# Altium schematic symbol library Symbols.SchLib: 50 symbols
Pins are listed as number, name and electrical type; pins without a type are passive.

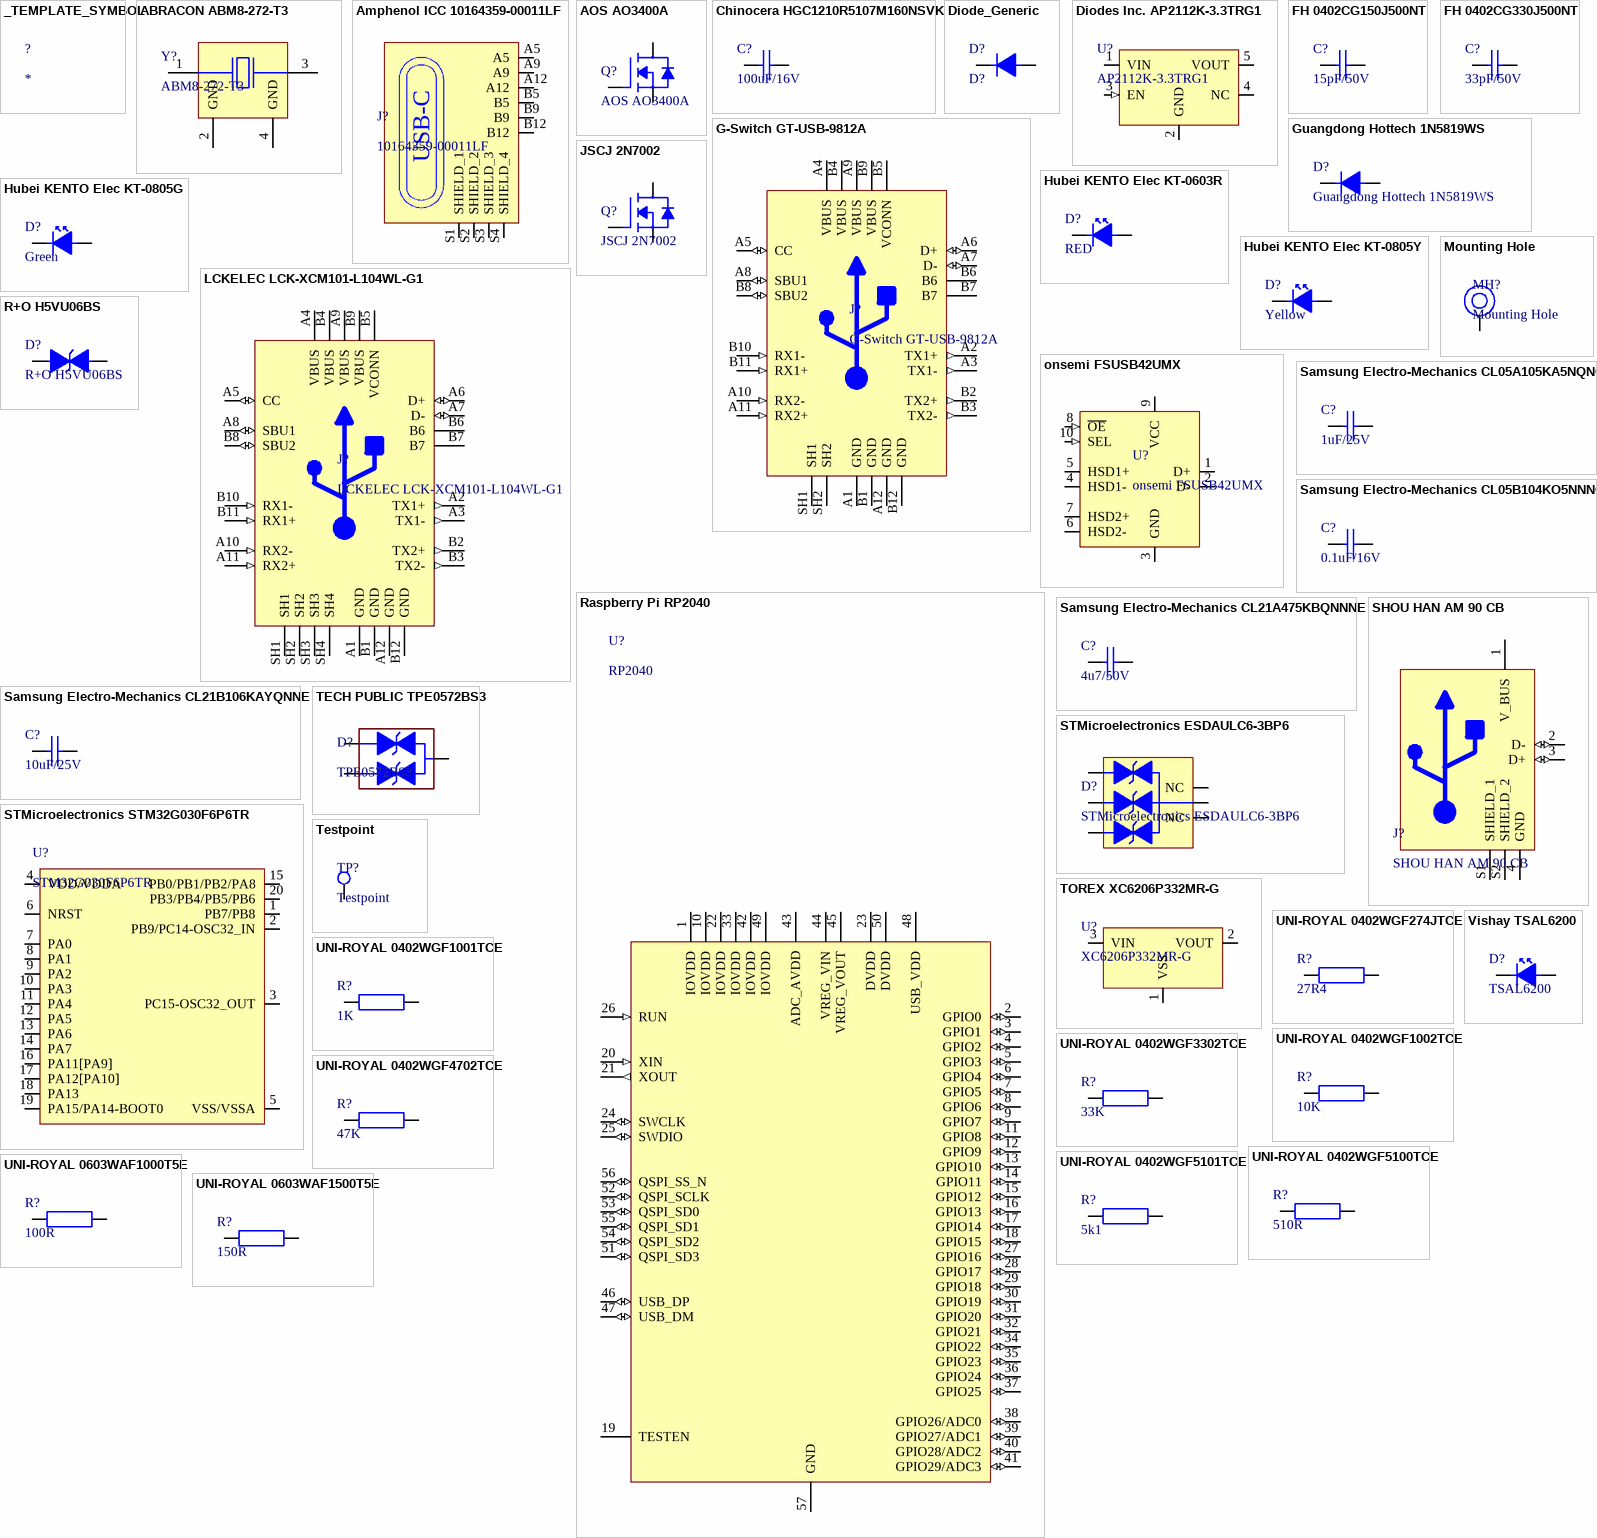
[diagram p0: symbols _TEMPLATE_SYMBOL to Vishay TSAL6200]

## _TEMPLATE_SYMBOL
designator ?
Manufacturer Part Number: *; ComponentLink1Description: Datasheet; ComponentLink1URL: *; Manufacturer: *; LCSC Part Number: *; ComponentLink2Description: 3D Model Source; ComponentLink2URL: *; JLCPCB Parts Type: *; JLCPCB PCBA Type: *
footprint _TEMPLATE_FOOTPRINT

## ABRACON ABM8-272-T3
designator Y?, comment ABM8-272-T3
12 MHz ±30ppm Crystal 10pF 50 Ohms 4-SMD, No Lead; Manufacturer: ABRACON; Manufacturer Part Number: ABM8-272-T3; ComponentLink1Description: Datasheet; ComponentLink1URL: https://abracon.com/datasheets/ABM8-272-T3.pdf; LCSC Part Number: C20625731; ComponentLink2Description: 3D Model Source; ComponentLink2URL: *; JLCPCB Parts Type: Extended; JLCPCB PCBA Type: Economic and Standard; Supplier 1: LCSC; Supplier Part Number 1: C20625731
footprint ABRACON ABM8-272-T3
pins: 1, 2 GND, 3, 4 GND

## Amphenol ICC 10164359-00011LF
designator J?, comment 10164359-00011LF
USB-C Receptacle Connector 24 (6+18 Dummy) - Power Only 6 Pin Position Surface Mount, Right Angle; Through Hole; Manufacturer: Amphenol ICC (FCI); Manufacturer Part Number: 10164359-00011LF; ComponentLink1Description: Datasheet; ComponentLink1URL: https://cdn.amphenol-cs.com/media/wysiwyg/files/drawing/10164359.pdf; ComponentLink2Description: 3D Model Source; ComponentLink2URL: https://www.snapeda.com/parts/10164359-00011LF/Amphenol/view-part/; LCSC Part #: C5407555; Supplier 1: LCSC; Supplier Part Number 1: C5407555; JLCPCB Parts Type: Extended; JLCPCB PCBA Type: Economic and Standard
footprint 10164359-00011LF
pins: A5, A9, A12, B5, B9, B12, S1 SHIELD_1, S2 SHIELD_2, S3 SHIELD_3, S4 SHIELD_4
text: USB-C

## AOS AO3400A
designator Q?
MOSFET N-CH 30V 5.7A SOT23-3L; Manufacturer: Alpha & Omega Semiconductor Inc.; Manufacturer Part Number: AO3400A; ComponentLink1Description: Datasheet; ComponentLink1URL: https://www.aosmd.com/res/datasheets/AO3400A.pdf; LCSC Part Number: C20917; ComponentLink2Description: Datasheet 2; ComponentLink2URL: https://www.aosmd.com/sites/default/files/res/package/SOT23.pdf; Supplier 1: LCSC; Supplier Part Number 1: C20917; JLCPCB Parts Type: Basic; JLCPCB PCBA Type: Economic and Standard; ComponentLink3Description: 3D Model Source; ComponentLink3URL: *
footprint SOT95P280X125-3N (SOT23, 3-Leads, Body 2.95x2.80mm, Pitch 0.95mm, IPC Medium Density)
pins: 1, 2, 3

## Chinocera HGC1210R5107M160NSVK
designator C?, comment 100uF/16V
CAP CER 100uF 16V X5R 1210; Manufacturer Part Number: HGC1210R5107M160NSVK; Manufacturer: Chinocera; ComponentLink1Description: Datasheet; ComponentLink1URL: https://www.lcsc.com/datasheet/C7432790.pdf?spm=wm.sxq.inf.ggs___wm.fly.bg.1.xh&lcsc_vid=EVNaBFcCQFIPBQJRTgMIVQJUEVRaU1dXRlhdBFwFRFIxVlNeRlNYVF1QR1VfUDtW; LCSC Part #: C7432790; JLCPCB Parts Type: Extended; JLCPCB PCBA Type: Economic and Extended
footprint CAPC3225X280N (Chip Capacitor, 2-Leads, Body 3.20x2.50mm, IPC Medium Density)
pins: 1, 2

## Diode_Generic
designator D?, comment D?
Generic Diode
pins: 1, 2

## Diodes Inc. AP2112K-3.3TRG1
designator U?, comment AP2112K-3.3TRG1
IC REG LINEAR 3.3V 600MA SOT-25; Manufacturer: Diodes Incorporated; Manufacturer Part Number: AP2112K-3.3TRG1; ComponentLink1Description: Datasheet; ComponentLink1URL: https://www.diodes.com/assets/Datasheets/AP2112.pdf; LCSC Part #: C51118; Supplier 1: LCSC; Supplier Part Number 1: C51118; JLCPCB Parts Type: Extended; JLCPCB PCBA Type: Economic and Standard
footprint SOT95P285X140-5N (SOT23, 5-Leads, Body 3.00x2.85mm, Pitch 0.95mm, IPC Medium Density)
pins: 1 VIN (power), 2 GND (power), 3 EN (in), 4 NC, 5 VOUT (power)

## FH 0402CG150J500NT
designator C?, comment 15pF/50V
CAP CER 15pF 50V C0G 0402; Manufacturer Part Number: 0402CG150J500NT; Manufacturer: FH; ComponentLink1Description: Datasheet; ComponentLink1URL: https://www.lcsc.com/datasheet/C1548.pdf?spm=wm.sxq.inf.ggs&lcsc_vid=FlIPVFxSEVAMBl1QQ1JdVl0EQlZYVFFSQVZZUFJeRVcxVlNeQ1ZcX1ZUQlReXjsOAxUeFF5JWBYZEEoKFBINSQcJGk4%3D; LCSC Part #: C1548; JLCPCB Parts Type: Basic; JLCPCB PCBA Type: Economic and Standard
footprint CAPC1005X55N (Chip Capacitor, 2-Leads, Body 1.00x0.50mm, IPC Medium Density)
pins: 1, 2

## FH 0402CG330J500NT
designator C?, comment 33pF/50V
CAP CER 33pF 50V C0G 0402; Manufacturer Part Number: 0402CG330J500NT; Manufacturer: FH; ComponentLink1Description: Datasheet; ComponentLink1URL: https://www.lcsc.com/datasheet/C1562.pdf?spm=wm.sxq.inf.ggs&lcsc_vid=Q1MLBFxfQgdYU1dfRFAKBgJUFgQPVwZeRVRdVFMEFlQxVlNeRVdbXlFWR1NfVzsOAxUeFF5JWBYZEEoKFBINSQcJGk4%3D; LCSC Part #: C1562; JLCPCB Parts Type: Basic; JLCPCB PCBA Type: Economic and Standard
footprint CAPC1005X55N (Chip Capacitor, 2-Leads, Body 1.00x0.50mm, IPC Medium Density)
pins: 1, 2

## G-Switch GT-USB-9812A
designator J?
USB 3.1 SMD USB, DVI, HDMI Connector Adapters RoHS; Manufacturer Part Number: GT-USB-9812A; ComponentLink1Description: Datasheet; ComponentLink1URL: https://www.lcsc.com/datasheet/C53055684.pdf?spm=wm.sxq.inf.ggs&lcsc_vid=QFhdBFUAE1JXUFRfFQQLUV0CQlRcUV0CRAJZXwEFRlYxVlNeQ1leUVJRT1lcVTsOAxUeFF5JWBYZEEoKFBINSQcJGk4%3D; Manufacturer: G-Switch; LCSC Part Number: C53055684; ComponentLink2Description: 3D Model Source; ComponentLink2URL: *; JLCPCB Parts Type: Extended; JLCPCB PCBA Type: Economic and Standard
footprint G-Switch GT-USB-9812A
pins: A1 GND (power), A2 TX1+ (out), A3 TX1- (out), A4 VBUS (power), A5 CC (io), A6 D+ (io), A7 D- (io), A8 SBU1 (io), A9 VBUS (power), A10 RX2- (in), A11 RX2+ (in), A12 GND (power), B1 GND (power), B2 TX2+ (out), B3 TX2- (out), B4 VBUS (power), B5 VCONN (power), B6, B7, B8 SBU2 (io), B9 VBUS (power), B10 RX1- (in), B11 RX1+ (in), B12 GND (power), SH1, SH2

## Guangdong Hottech 1N5819WS
designator D?
DIODE SCHOTTKY 40V SOD-323; Manufacturer Part Number: 1N5819WS; ComponentLink1Description: Datasheet; ComponentLink1URL: https://www.lcsc.com/datasheet/C191023.pdf?spm=wm.sxq.inf.ggs&lcsc_vid=FgUKAwAHT1hdAgBSEQJZUFZfRwdWX1BXQgcMVwVSEgcxVlNeQ1dbV11VRlhXXzsOAxUeFF5JWBYZEEoKFBINSQcJGk4%3D; Manufacturer: Guangdong Hottech; LCSC Part Number: C191023; ComponentLink2Description: 3D Model Source; ComponentLink2URL: *; JLCPCB Parts Type: Basic; JLCPCB PCBA Type: Economic and Standard; Supplier 1: LCSC; Supplier Part Number 1: C191023
footprint SODFL250130X100N (SODFL, 2-Leads, Body 1.70x1.30mm, IPC Medium Density)
pins: 1, 2

## Hubei KENTO Elec KT-0603R
designator D?, comment RED
LED RED WATER CLEAR 0603 SMD; Manufacturer Part Number: KT-0603R; Manufacturer: Hubei KENTO Elec; ComponentLink1Description: Datasheet; ComponentLink1URL: https://www.lcsc.com/datasheet/C2286.pdf?spm=wm.sxq.inf.ggs&lcsc_vid=EgULX1wEEgNWVVAHFFheXgEEQVBbUFYFRwIPBF1XRgMxVlNeQ1RbXlJRQFJaUzsOAxUeFF5JWBYZEEoKFBINSQcJGk4%3D; LCSC Part Number: C2286; ComponentLink2Description: 3D Model Source; ComponentLink2URL: *; JLCPCB Parts Type: Basic; JLCPCB PCBA Type: Economic and Standard
footprint DIOC1608X70N (Chip Diode, 2-Leads, Body 1.60x0.80mm, IPC Medium Density)
pins: 1, 2

## Hubei KENTO Elec KT-0805G
designator D?, comment Green
LED EMERALD GREEN 0805 SMD; Manufacturer Part Number: KT-0805Y; Manufacturer: Hubei KENTO Elec; ComponentLink1Description: Datasheet; ComponentLink1URL: https://www.lcsc.com/datasheet/C2297.pdf?spm=wm.sxq.inf.ggs&lcsc_vid=EgULX1wEEgNWVVAHFFheXgEEQVBbUFYFRwIPBF1XRgMxVlNeQ1RYVlRQT1VeUDsOAxUeFF5JWBYZEEoKFBINSQcJGk4%3D; LCSC Part Number: C2297; ComponentLink2Description: 3D Model Source; ComponentLink2URL: *; JLCPCB Parts Type: Basic; JLCPCB PCBA Type: Economic and Standard
footprint DIOC2012X95N (Chip Diode, 2-Leads, Body 2.00x1.25mm, IPC Medium Density)
pins: 1, 2

## Hubei KENTO Elec KT-0805Y
designator D?, comment Yellow
LED YELLOW WATER CLEAR 0805 SMD; Manufacturer Part Number: KT-0805Y; Manufacturer: Hubei KENTO Elec; ComponentLink1Description: Datasheet; ComponentLink1URL: https://www.lcsc.com/datasheet/C2296.pdf?spm=wm.sxq.inf.ggs&lcsc_vid=EgULX1wEEgNWVVAHFFheXgEEQVBbUFYFRwIPBF1XRgMxVlNeQ1RYV1FTR1heVTsOAxUeFF5JWBYZEEoKFBINSQcJGk4eFQsCAgIaSgADAwAHC0slRVNWUUoOAwwC; LCSC Part Number: C2296; ComponentLink2Description: 3D Model Source; ComponentLink2URL: *; JLCPCB Parts Type: Basic; JLCPCB PCBA Type: Economic and Standard
footprint DIOC2012X95N (Chip Diode, 2-Leads, Body 2.00x1.25mm, IPC Medium Density)
pins: 1, 2

## JSCJ 2N7002
designator Q?
MOSFET N-CH 60V 115mA SOT-23; Manufacturer Part Number: 2N7002; ComponentLink1Description: Datasheet; ComponentLink1URL: https://www.lcsc.com/datasheet/C8545.pdf?spm=wm.sxq.inf.ggs&lcsc_vid=EgULX1wEEgNWVVAHFFheXgEEQVBbUFYFRwIPBF1XRgMxVlNeQ1RYUlNfQFBWVTsOAxUeFF5JWBYZEEoKFBINSQcJGk4%3D; Manufacturer: JSCJ; LCSC Part Number: C8545; JLCPCB Parts Type: Basic; JLCPCB PCBA Type: Economic and Standard; ComponentLink3Description: 3D Model Source; ComponentLink3URL: *
footprint SOT95P240X115-3N (SOT23, 3-Leads, Body 2.90x2.40mm, Pitch 0.95mm, IPC Medium Density)
pins: 1, 2, 3

## LCKELEC LCK-XCM101-L104WL-G1
designator J?
SMD USB, DVI, HDMI Connector Adapters RoHS; Manufacturer Part Number: LCK-XCM101-L104WL-G1; ComponentLink1Description: Datasheet; ComponentLink1URL: https://www.lcsc.com/datasheet/C50380726.pdf?spm=wm.sxq.inf.ggs&lcsc_vid=EQdfU1AERAQMUVAEEwNZBAJUFVhYVwEHRVMIUlwFFFIxVlNeRVFYVVxVTlRdVTsOAxUeFF5JWBYZEEoKFBINSQcJGk4%3D; Manufacturer: LCKELEC; LCSC Part Number: C50380726; ComponentLink2Description: 3D Model Source; ComponentLink2URL: *; JLCPCB Parts Type: Extended; JLCPCB PCBA Type: Economic and Standard
footprint LCKELEC LCK-XCM101-L104WL-G1
pins: A1 GND (power), A2 TX1+ (out), A3 TX1- (out), A4 VBUS (power), A5 CC (io), A6 D+ (io), A7 D- (io), A8 SBU1 (io), A9 VBUS (power), A10 RX2- (in), A11 RX2+ (in), A12 GND (power), B1 GND (power), B2 TX2+ (out), B3 TX2- (out), B4 VBUS (power), B5 VCONN (power), B6, B7, B8 SBU2 (io), B9 VBUS (power), B10 RX1- (in), B11 RX1+ (in), B12 GND (power), SH1, SH2, SH3, SH4

## Mounting Hole
designator MH?
pins: 1

## onsemi FSUSB42UMX
designator U?
IC USB SWITCH DPDT 10UMLP; Manufacturer Part Number: FSUSB42UMX; ComponentLink1Description: Datasheet; ComponentLink1URL: https://www.onsemi.com/pdf/datasheet/fsusb42-d.pdf; Manufacturer: onsemi; LCSC Part Number: C11145; ComponentLink2Description: 3D Model Source; ComponentLink2URL: *; JLCPCB Parts Type: Extended; JLCPCB PCBA Type: Economic and Standard; Supplier 1: LCSC; Supplier Part Number 1: C11145
footprint QFN40P140X180X55-10N (QFN, 10-Leads, Body 1.40x1.80mm, Pitch 0.40mm, IPC Medium Density)
pins: 1 D+ (io), 2 D- (io), 3 GND (power), 4 HSD1- (io), 5 HSD1+ (io), 6 HSD2- (io), 7 HSD2+ (io), 8 ~{OE} (in), 9 VCC (power), 10 SEL (in)

## R+O H5VU06BS
designator D?
6V 10A@8/20us 60W@8/20us 10V Bidirectional 5V DFN0603-2L TVS Diodes RoHS; Manufacturer Part Number: H5VU06BS; ComponentLink1Description: Datasheet; ComponentLink1URL: https://www.lcsc.com/datasheet/C52204691.pdf?spm=wm.sxq.inf.ggs&lcsc_vid=EgULX1wEEgNWVVAHFFheXgEEQVBbUFYFRwIPBF1XRgMxVlNeQ1RZVVRTRlBaVTsOAxUeFF5JWBYZEEoKFBINSQcJGk4%3D; Manufacturer: R+O; LCSC Part Number: C52204691; ComponentLink2Description: 3D Model Source; ComponentLink2URL: *; JLCPCB Parts Type: Extended; JLCPCB PCBA Type: Economic and Standard
footprint DFN60X30X34-2N (DFN, 2-Leads, Body 0.60x0.30mm, Pitch 0.40mm, IPC Medium Density)
pins: 1, 2

## Raspberry Pi RP2040
designator U?, comment RP2040
ARM® Cortex®-M0+ - Microcontroller IC 32-Bit Dual-Core 133MHz External Program Memory 56-QFN (7x7); Manufacturer Part Number: SC0914(13); Manufacturer: Raspberry Pi; ComponentLink1Description: Datasheet; ComponentLink1URL: https://pip-assets.raspberrypi.com/categories/814-rp2040/documents/RP-008371-DS-1-rp2040-datasheet.pdf; LCSC Part Number: C2040; ComponentLink2Description: 3D Model Source; ComponentLink2URL: *; Supplier 1: LCSC; Supplier Part Number 1: C2040; JLCPCB Parts Type: Extended; JLCPCB PCBA Type: Economic and Standard
footprint QFN40P700X700X90-57N (QFN, 56-Leads, Body 7.00x7.00mm, Pitch 0.40mm, Thermal Pad 3.10x3.10mm, IPC Medium Density)
pins: 1 IOVDD (power), 2 GPIO0 (io), 3 GPIO1 (io), 4 GPIO2 (io), 5 GPIO3 (io), 6 GPIO4 (io), 7 GPIO5 (io), 8 GPIO6 (io), 9 GPIO7 (io), 10 IOVDD (power), 11 GPIO8 (io), 12 GPIO9 (io), 13 GPIO10 (io), 14 GPIO11 (io), 15 GPIO12 (io), 16 GPIO13 (io), 17 GPIO14 (io), 18 GPIO15 (io), 19 TESTEN, 20 XIN (in), 21 XOUT (out), 22 IOVDD (power), 23 DVDD (power), 24 SWCLK (io), 25 SWDIO (io), 26 RUN (in), 27 GPIO16 (io), 28 GPIO17 (io), 29 GPIO18 (io), 30 GPIO19 (io), 31 GPIO20 (io), 32 GPIO21 (io), 33 IOVDD (power), 34 GPIO22 (io), 35 GPIO23 (io), 36 GPIO24 (io), 37 GPIO25 (io), 38 GPIO26/ADC0 (io), 39 GPIO27/ADC1 (io), 40 GPIO28/ADC2 (io), 41 GPIO29/ADC3 (io), 42 IOVDD (power), 43 ADC_AVDD (power), 44 VREG_VIN (power), 45 VREG_VOUT (power), 46 USB_DP (io), 47 USB_DM (io), 48 USB_VDD (power), 49 IOVDD (power), 50 DVDD (power), 51 QSPI_SD3 (io), 52 QSPI_SCLK (io), 53 QSPI_SD0 (io), 54 QSPI_SD2 (io), 55 QSPI_SD1 (io), 56 QSPI_SS_N (io), 57 GND (power)

## Samsung Electro-Mechanics CL05A105KA5NQNC
designator C?, comment 1uF/25V
CAP CER 1UF 25V X5R 0402; Manufacturer Part Number: CL05A105KA5NQNC; Manufacturer: Samsung Electro-Mechanics; ComponentLink1Description: Datasheet; ComponentLink1URL: https://mm.digikey.com/Volume0/opasdata/d220001/medias/docus/41/CL05A105KA5NQNC.pdf; LCSC Part #: C52923; JLCPCB Parts Type: Basic; JLCPCB PCBA Type: Economic and Standard; Supplier 1: LCSC; Supplier Part Number 1: C52923
footprint CAPC1005X60N (Chip Capacitor, 2-Leads, Body 1.00x0.50mm, IPC Medium Density)
pins: 1, 2

## Samsung Electro-Mechanics CL05B104KO5NNNC
designator C?, comment 0.1uF/16V
CAP CER 0.1UF 16V X7R 0402; Manufacturer Part Number: CL05B104KO5NNNC; Manufacturer: Samsung Electro-Mechanics; ComponentLink1Description: Datasheet; ComponentLink1URL: https://mm.digikey.com/Volume0/opasdata/d220001/medias/docus/609/CL05B104KO5NNNC.pdf; LCSC Part #: C1525; JLCPCB Parts Type: Basic; JLCPCB PCBA Type: Economic and Standard
footprint CAPC1005X55N (Chip Capacitor, 2-Leads, Body 1.00x0.50mm, IPC Medium Density)
pins: 1, 2

## Samsung Electro-Mechanics CL21A475KBQNNNE
designator C?, comment 4u7/50V
CAP CER 4.7uF 50V X5R 0805; Manufacturer Part Number: CL21A475KBQNNNE; Manufacturer: Samsung Electro-Mechanics; ComponentLink1Description: Datasheet; ComponentLink1URL: https://mm.digikey.com/Volume0/opasdata/d220001/medias/docus/5727/CL21A475KBQNNNE.pdf; LCSC Part #: C98192; Supplier 1: LCSC; Supplier Part Number 1: C98192; JLCPCB Parts Type: Extended; JLCPCB PCBA Type: Economic and Standard
footprint CAPC2012X95N (Chip Capacitor, 2-Leads, Body 2.00x1.25mm, IPC Medium Density)
pins: 1, 2

## Samsung Electro-Mechanics CL21B106KAYQNNE
designator C?, comment 10uF/25V
CAP CER 10uF 25V X7R 0805; Manufacturer Part Number: CL21B106KAYQNNE; Manufacturer: Samsung Electro-Mechanics; ComponentLink1Description: Datasheet; ComponentLink1URL: https://mm.digikey.com/Volume0/opasdata/d220001/medias/docus/7851/1276_CL21B1.pdf; LCSC Part #: C3039694; Supplier 1: LCSC; Supplier Part Number 1: C3039694; JLCPCB Parts Type: Extended; JLCPCB PCBA Type: Economic and Standard
footprint CAPC2012X95N (Chip Capacitor, 2-Leads, Body 2.00x1.25mm, IPC Medium Density)
pins: 1, 2

## SHOU HAN AM 90 CB
designator J?
CONN RCPT USB 2.0 Type-A 4POS TH R/A; Manufacturer Part Number: AM 90 CB; ComponentLink1Description: Datasheet; ComponentLink1URL: https://www.lcsc.com/datasheet/C6386906.pdf?spm=wm.sxq.inf.ggs&lcsc_vid=EQVbUgJQEVhfV1ZUEVdXBAACFlQPUlNXFARfUVZXR1IxVlNeRVFaVV1SQVNcUDsOAxUeFF5JWBYZEEoKFBINSQcJGk4%3D; Manufacturer: SHOU HAN; LCSC Part Number: C6386906; ComponentLink2Description: 3D Model Source; ComponentLink2URL: *; Supplier 1: LCSC; Supplier Part Number 1: C6386906; JLCPCB Parts Type: Extended; JLCPCB PCBA Type: Economic and Standard
footprint SHOU HAN AM 90 CB
pins: 1 V_BUS (power), 2 D- (io), 3 D+ (io), 4 GND (power), S1 SHIELD_1, S2 SHIELD_2

## STMicroelectronics ESDAULC6-3BP6
designator D?
TVS DIODE 5VWM SOT666; Manufacturer Part Number: ESDAULC6-3BP6; ComponentLink1Description: Datasheet; ComponentLink1URL: https://www.st.com/resource/en/datasheet/cd00165276.pdf; Manufacturer: STMicroelectronics; LCSC Part Number: C1976755; ComponentLink2Description: 3D Model Source; ComponentLink2URL: *; JLCPCB Parts Type: Extended; JLCPCB PCBA Type: Economic and Standard
footprint STMicroelectronics ESDAULC6-3BP6 (SOTFL, 6-Leads, Body 1.60x1.60mm, Pitch 0.50mm, IPC Medium Density)
pins: 1 I/O1, 2 NC, 3 I/O2, 4 IO/3, 5 NC, 6 GND

## STMicroelectronics STM32G030F6P6TR
designator U?, comment STM32G030F6P6TR
IC MCU 32BIT 32KB FLASH 20TSSOP; Manufacturer: STMicroelectronics; Manufacturer Part Number: STM32G030F6P6TR; ComponentLink1Description: Datasheet; ComponentLink1URL: https://www.st.com/resource/en/datasheet/stm32g030f6.pdf; LCSC Part #: C529330; Supplier 1: LCSC; Supplier Part Number 1: C529330; JLCPCB Parts Type: Extended; JLCPCB PCBA Type: Economic and Standard
footprint TSOP65P640X120-20N (TSOP, 20-Leads, Body 6.50x4.40mm, Pitch 0.65mm, IPC Medium Density)
pins: 1 PB7/PB8, 2 PB9/PC14-OSC32_IN, 3 PC15-OSC32_OUT, 4 VDD/VDDA (power), 5 VSS/VSSA (power), 6 NRST, 7 PA0, 8 PA1, 9 PA2, 10 PA3, 11 PA4, 12 PA5, 13 PA6, 14 PA7, 15 PB0/PB1/PB2/PA8, 16 PA11[PA9], 17 PA12[PA10], 18 PA13, 19 PA15/PA14-BOOT0, 20 PB3/PB4/PB5/PB6

## TECH PUBLIC TPE0572BS3
designator D?, comment TPE0572BS3
ESD DIODE 5VWM 6VC 10VC SOT-23; Manufacturer: TECH PUBLIC; Manufacturer Part Number: TPE0572BS3; ComponentLink1Description: Datasheet; ComponentLink1URL: https://www.lcsc.com/datasheet/C2858713.pdf?spm=wm.sxq.inf.ggs___wm.fly.bg.11.xh&lcsc_vid=QABaAgJWE1YLVVZSTlReAQUDElVWAgYAFlMMUQAAQlMxVlNeRlNYXlRVRFhZVDsOAxUeFF5JWBYZEEoKFBINSQcJGk4NBhADEA4cHktRR1NADxALGw%3D%3D; LCSC Part #: C2858713; Supplier 1: LCSC; Supplier Part Number 1: C2858713; JLCPCB Parts Type: Extended; JLCPCB PCBA Type: Economic and Standard
footprint SOT95P240X115-3N (SOT23, 3-Leads, Body 2.90x2.40mm, Pitch 0.95mm, IPC Medium Density)
pins: 1, 2, 3 GND

## Testpoint
designator TP?  (no BOM)
footprint TP_SMD_R1M0
pins: 1

## TOREX XC6206P332MR-G
designator U?, comment XC6206P332MR-G
IC REG LINEAR 3.3V 200MA SOT23; Manufacturer: TOREX; Manufacturer Part Number: XC6206P332MR-G; ComponentLink1Description: Datasheet; ComponentLink1URL: https://product.torexsemi.com/system/files/series/xc6206.pdf; LCSC Part #: C5446; Supplier 1: LCSC; Supplier Part Number 1: C5446; JLCPCB Parts Type: Basic; JLCPCB PCBA Type: Economic and Standard
footprint SOT95P280X130-3N (SOT23, 3-Leads, Body 2.90x2.80mm, Pitch 0.95mm, IPC Medium Density)
pins: 1 VSS (power), 2 VOUT (power), 3 VIN (power)

## UNI-ROYAL 0402WGF274JTCE
designator R?, comment 27R4
RES 27.4Ω ±1% 62.5mW 0402; Manufacturer Part Number: 0402WGF274JTCE; Manufacturer: UNI-ROYAL; ComponentLink1Description: Datasheet; ComponentLink1URL: https://www.lcsc.com/datasheet/C31439.pdf?spm=wm.sxq.inf.ggs&lcsc_vid=RVMLXldXRwcKUgUEEVhaBQcAQ1deVlcCFVAKV1VTRVcxVlNeRVdaX1xXQ1laUDsOAxUeFF5JWBYZEEoKFBINSQcJGk4%3D; LCSC Part Number: C31439; ComponentLink2Description: 3D Model Source; ComponentLink2URL: *; Supplier 1: LCSC; Supplier Part Number 1: C31439; JLCPCB Parts Type: Extended; JLCPCB PCBA Type: Economic and Standard
footprint RESC1005X40N (Chip Resistor, 2-Leads, Body 1.00x0.50mm, IPC Medium Density)
pins: 1, 2

## UNI-ROYAL 0402WGF1001TCE
designator R?, comment 1K
RES 1kΩ ±1% 62.5mW 0402; Manufacturer Part Number: 0402WGF1001TCE; Manufacturer: UNI-ROYAL; ComponentLink1Description: Datasheet; ComponentLink1URL: https://www.lcsc.com/datasheet/C25905.pdf?spm=wm.sxq.inf.ggs&lcsc_vid=QwRWVlFeFgUPVwAHRlQMVFRWElEIXlYDQFlcUQdRRFYxVlNeRVdaVFZVRFRdXzsOAxUeFF5JWBYZEEoKFBINSQcJGk4%3D; LCSC Part Number: C11702; ComponentLink2Description: 3D Model Source; ComponentLink2URL: *; JLCPCB Parts Type: Basic; JLCPCB PCBA Type: Economic and Standard
footprint RESC1005X40N (Chip Resistor, 2-Leads, Body 1.00x0.50mm, IPC Medium Density)
pins: 1, 2

## UNI-ROYAL 0402WGF1002TCE
designator R?, comment 10K
RES 10kΩ ±1% 62.5mW 0402; Manufacturer Part Number: 0402WGF1002TCE; Manufacturer: UNI-ROYAL; ComponentLink1Description: Datasheet; ComponentLink1URL: https://www.lcsc.com/datasheet/C25905.pdf?spm=wm.sxq.inf.ggs&lcsc_vid=QwRWVlFeFgUPVwAHRlQMVFRWElEIXlYDQFlcUQdRRFYxVlNeRVdaVFZVRFRdXzsOAxUeFF5JWBYZEEoKFBINSQcJGk4%3D; LCSC Part Number: C25744; ComponentLink2Description: 3D Model Source; ComponentLink2URL: *; JLCPCB Parts Type: Basic; JLCPCB PCBA Type: Economic and Standard
footprint RESC1005X40N (Chip Resistor, 2-Leads, Body 1.00x0.50mm, IPC Medium Density)
pins: 1, 2

## UNI-ROYAL 0402WGF3302TCE
designator R?, comment 33K
RES 33kΩ ±1% 62.5mW 0402; Manufacturer Part Number: 0402WGF3302TCE; Manufacturer: UNI-ROYAL; ComponentLink1Description: Datasheet; ComponentLink1URL: https://www.lcsc.com/datasheet/C25779.pdf?spm=wm.sxq.inf.ggs&lcsc_vid=FgUKAwAHT1hdAgBSEQJZUFZfRwdWX1BXQgcMVwVSEgcxVlNeQ1dbVVBSRVJXVzsOAxUeFF5JWBYZEEoKFBINSQcJGk4%3D; LCSC Part Number: C25779; ComponentLink2Description: 3D Model Source; ComponentLink2URL: *; JLCPCB Parts Type: Basic; JLCPCB PCBA Type: Economic and Standard
footprint RESC1005X40N (Chip Resistor, 2-Leads, Body 1.00x0.50mm, IPC Medium Density)
pins: 1, 2

## UNI-ROYAL 0402WGF4702TCE
designator R?, comment 47K
RES 47kΩ ±1% 62.5mW 0402; Manufacturer Part Number: 0402WGF4702TCE; Manufacturer: UNI-ROYAL; ComponentLink1Description: Datasheet; ComponentLink1URL: https://www.lcsc.com/datasheet/C25792.pdf?spm=wm.sxq.inf.ggs&lcsc_vid=FgUKAwAHT1hdAgBSEQJZUFZfRwdWX1BXQgcMVwVSEgcxVlNeQ1dbVVFURVhdVTsOAxUeFF5JWBYZEEoKFBINSQcJGk4eFQsCAgIaSgADAwAHC0slRVRZUF1IHxUDCw%3D%3D; LCSC Part Number: C25792; ComponentLink2Description: 3D Model Source; ComponentLink2URL: *; JLCPCB Parts Type: Basic; JLCPCB PCBA Type: Economic and Standard
footprint RESC1005X40N (Chip Resistor, 2-Leads, Body 1.00x0.50mm, IPC Medium Density)
pins: 1, 2

## UNI-ROYAL 0402WGF5100TCE
designator R?, comment 510R
RES 510Ω ±1% 62.5mW 0402; Manufacturer Part Number: 0402WGF5100TCE; Manufacturer: UNI-ROYAL; ComponentLink1Description: Datasheet; ComponentLink1URL: https://www.lcsc.com/datasheet/C25123.pdf?spm=wm.sxq.inf.ggs&lcsc_vid=Q1MLBFxfQgdYU1dfRFAKBgJUFgQPVwZeRVRdVFMEFlQxVlNeRVdYVlZWQlNXVjsOAxUeFF5JWBYZEEoKFBINSQcJGk4%3D; LCSC Part Number: C25123; ComponentLink2Description: 3D Model Source; ComponentLink2URL: *; JLCPCB Parts Type: Basic; JLCPCB PCBA Type: Economic and Standard
footprint RESC1005X40N (Chip Resistor, 2-Leads, Body 1.00x0.50mm, IPC Medium Density)
pins: 1, 2

## UNI-ROYAL 0402WGF5101TCE
designator R?, comment 5k1
RES 5.1kΩ ±1% 62.5mW 0402; Manufacturer Part Number: 0402WGF5101TCE; Manufacturer: UNI-ROYAL; ComponentLink1Description: Datasheet; ComponentLink1URL: https://www.lcsc.com/datasheet/C25905.pdf?spm=wm.sxq.inf.ggs&lcsc_vid=QwRWVlFeFgUPVwAHRlQMVFRWElEIXlYDQFlcUQdRRFYxVlNeRVdaVFZVRFRdXzsOAxUeFF5JWBYZEEoKFBINSQcJGk4%3D; LCSC Part Number: C25905; ComponentLink2Description: 3D Model Source; ComponentLink2URL: *; JLCPCB Parts Type: Basic; JLCPCB PCBA Type: Economic and Standard
footprint RESC1005X40N (Chip Resistor, 2-Leads, Body 1.00x0.50mm, IPC Medium Density)
pins: 1, 2

## UNI-ROYAL 0603WAF1000T5E
designator R?, comment 100R
RES 100Ω ±1% 100mW 0603; Manufacturer Part Number: 0603WAF1000T5E; ComponentLink1Description: Datasheet; ComponentLink1URL: https://www.lcsc.com/datasheet/C22775.pdf?spm=wm.sxq.inf.ggs&lcsc_vid=EgULX1wEEgNWVVAHFFheXgEEQVBbUFYFRwIPBF1XRgMxVlNeQ1RYUFVUR1VcXjsOAxUeFF5JWBYZEEoKFBINSQcJGk4eFQsCAgIaSgADAwAHC0slRVNWV1xIHxUDCw%3D%3D; Manufacturer: 0603WAF1000T5E; LCSC Part Number: C22775; ComponentLink2Description: 3D Model Source; ComponentLink2URL: *; JLCPCB Parts Type: Basic; JLCPCB PCBA Type: Economic and Standard
footprint RESC1608X55N (Chip Resistor, 2-Leads, Body 1.60x0.80mm, IPC Medium Density)
pins: 1, 2

## UNI-ROYAL 0603WAF1500T5E
designator R?, comment 150R
RES 150Ω ±1% 100mW 0603; Manufacturer Part Number: 0603WAF1500T5E; Manufacturer: UNI-ROYAL; ComponentLink1Description: Datasheet; ComponentLink1URL: https://www.lcsc.com/datasheet/C22808.pdf?spm=wm.sxq.inf.ggs&lcsc_vid=EgULX1wEEgNWVVAHFFheXgEEQVBbUFYFRwIPBF1XRgMxVlNeQ1RYUVJQQFdbXzsOAxUeFF5JWBYZEEoKFBINSQcJGk4%3D; LCSC Part Number: C22808; ComponentLink2Description: 3D Model Source; ComponentLink2URL: *; JLCPCB Parts Type: Basic; JLCPCB PCBA Type: Economic and Standard
footprint RESC1608X55N (Chip Resistor, 2-Leads, Body 1.60x0.80mm, IPC Medium Density)
pins: 1, 2

## Vishay TSAL6200
designator D?, comment TSAL6200
Infrared (IR) Emitter 940nm 1.35V 100mA 40mW/sr @ 100mA 34° Radial, 5mm Dia (T 1 3/4); Manufacturer: Vishay; 3D Model Source: Ultra Librarian; Manufacturer Part Number: TSAL6200; ComponentLink1Description: Datasheet; ComponentLink1URL: https://www.vishay.com/docs/81011/tsal6400.pdf; LCSC Part #: C55528; Supplier 1: LCSC; Supplier Part Number 1: C55528; JLCPCB Parts Type: Extended; JLCPCB PCBA Type: Economic and Standard
footprint TSAL6200
pins: 1, 2

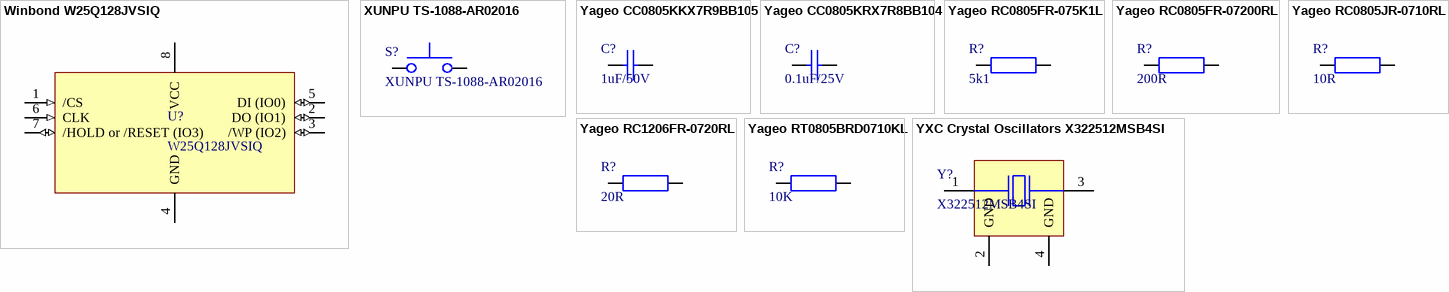
[diagram p1: symbols Winbond W25Q128JVSIQ to YXC Crystal Oscillators X322512MSB4SI]

## Winbond W25Q128JVSIQ
designator U?, comment W25Q128JVSIQ
FLASH - NOR Memory IC 128Mbit SPI - Quad I/O, QPI 133 MHz 8-SOIC; Manufacturer: Winbond Electronics; Manufacturer Part Number: W25Q128JVSIQ; ComponentLink1Description: Datasheet; ComponentLink1URL: https://mm.digikey.com/Volume0/opasdata/d220001/medias/docus/7161/256_W25Q128JV.pdf; LCSC Part Number: C97521; ComponentLink2Description: 3D Model Source; ComponentLink2URL: *; Supplier 1: LCSC; Supplier Part Number 1: C97521; JLCPCB Parts Type: Basic; JLCPCB PCBA Type: Economic and Standard
footprint SOIC127P790X216-8N (SOIC, 8-Leads, Body 5.28x5.28mm, Pitch 1.27mm, IPC Medium Density)
pins: 1 /CS (in), 2 DO (IO1) (io), 3 /WP (IO2) (io), 4 GND (power), 5 DI (IO0) (io), 6 CLK (in), 7 /HOLD or /RESET (IO3) (io), 8 VCC (power)

## XUNPU TS-1088-AR02016
designator S?
SWITCH TACTILE SPST 160gf SMD; Manufacturer Part Number: TS-1088-AR02016; ComponentLink1Description: Datasheet; ComponentLink1URL: https://www.lcsc.com/datasheet/C720477.pdf?spm=wm.sxq.inf.ggs&lcsc_vid=QlFWU1RUTlJcVlxXFVVfUV1WQlNXBFRVFQQIX1EFTwMxVlNeRVldVFxXRVlXUTsOAxUeFF5JWBYZEEoKFBINSQcJGk4%3D; Manufacturer: XUNPU; LCSC Part Number: C720477; ComponentLink2Description: 3D Model Source; ComponentLink2URL: *; Supplier 1: LCSC; Supplier Part Number 1: C720477; JLCPCB Parts Type: Basic; JLCPCB PCBA Type: Economic and Standard
footprint XUNPU TS-1088-AR02016
pins: 1, 2

## Yageo CC0805KKX7R9BB105
designator C?, comment 1uF/50V
CAP CER 1UF 50V X7R 0805; Manufacturer Part Number: CC0805KKX7R9BB105; Manufacturer: Yageo; ComponentLink1Description: Datasheet; ComponentLink1URL: https://yageogroup.com/content/datasheet/asset/file/UPY-GPHC_X7R_6_3V-TO-250V; LCSC Part #: C91185; Supplier 1: LCSC; Supplier Part Number 1: C91185; JLCPCB Parts Type: Extended; JLCPCB PCBA Type: Economic and Standard
footprint CAPC2012X95N (Chip Capacitor, 2-Leads, Body 2.00x1.25mm, IPC Medium Density)
pins: 1, 2

## Yageo CC0805KRX7R8BB104
designator C?, comment 0.1uF/25V
CAP CER 0.1UF 25V X7R 0805; Manufacturer Part Number: CC0805KRX7R8BB104; Manufacturer: Yageo; ComponentLink1Description: Datasheet; ComponentLink1URL: https://yageogroup.com/content/datasheet/asset/file/UPY-GPHC_X7R_6_3V-TO-250V; LCSC Part #: C519981; Supplier 1: LCSC; Supplier Part Number 1: C519981; JLCPCB Parts Type: Extended; JLCPCB PCBA Type: Economic and Standard
footprint CAPC2012X95N (Chip Capacitor, 2-Leads, Body 2.00x1.25mm, IPC Medium Density)
pins: 1, 2

## Yageo RC0805FR-075K1L
designator R?, comment 5k1
RES 5.1K OHM 1% 1/8W 0805; Manufacturer Part Number: RC0805FR-075K1L; Manufacturer: Yageo; ComponentLink1Description: Datasheet; ComponentLink1URL: https://yageogroup.com/content/datasheet/asset/file/PYU-RC_GROUP_51_ROHS_L; LCSC Part #: C84375; Supplier 1: LCSC; Supplier Part Number 1: C84375; JLCPCB Parts Type: Extended; JLCPCB PCBA Type: Economic and Standard
footprint RESC2012X60N (Chip Resistor, 2-Leads, Body 2.00x1.25mm, IPC Medium Density)
pins: 1, 2

## Yageo RC0805FR-07200RL
designator R?, comment 200R
RES 200 OHM ±1% 125mW 0805; Manufacturer Part Number: RC0805FR-07200RL; Manufacturer: Yageo; ComponentLink1Description: Datasheet; ComponentLink1URL: https://yageogroup.com/content/datasheet/asset/file/PYU-RC_GROUP_51_ROHS_L; LCSC Part #: C114567; Supplier 1: LCSC; Supplier Part Number 1: C114567; JLCPCB Parts Type: Extended; JLCPCB PCBA Type: Economic and Standard
footprint RESC2012X60N (Chip Resistor, 2-Leads, Body 2.00x1.25mm, IPC Medium Density)
pins: 1, 2

## Yageo RC0805JR-0710RL
designator R?, comment 10R
RES 10 OHM 5% 1/8W 0805; Manufacturer Part Number: RC0805JR-0710RL; Manufacturer: Yageo; ComponentLink1Description: Datasheet; ComponentLink1URL: https://yageogroup.com/content/datasheet/asset/file/PYU-RC_GROUP_51_ROHS_L; LCSC Part #: C137478; Supplier 1: LCSC; Supplier Part Number 1: C137478; JLCPCB Parts Type: Extended; JLCPCB PCBA Type: Economic and Standard
footprint RESC2012X60N (Chip Resistor, 2-Leads, Body 2.00x1.25mm, IPC Medium Density)
pins: 1, 2

## Yageo RC1206FR-0720RL
designator R?, comment 20R
RES 20 OHM 1% 1/4W 1206; Manufacturer Part Number: RC1206FR-0720RL; Manufacturer: Yageo; ComponentLink1Description: Datasheet; ComponentLink1URL: https://yageogroup.com/content/datasheet/asset/file/PYU-RC_GROUP_51_ROHS_L; LCSC Part #: C114941; Supplier 1: LCSC; Supplier Part Number 1: C114941; JLCPCB Parts Type: Extended; JLCPCB PCBA Type: Economic and Standard
footprint RESC3116X65N (Chip Resistor, 2-Leads, Body 3.10x1.60mm, IPC Medium Density)
pins: 1, 2

## Yageo RT0805BRD0710KL
designator R?, comment 10K
RES SMD 10K OHM 0.1% 1/8W 0805; Manufacturer Part Number: RT0805BRD0710KL; Manufacturer: Yageo; ComponentLink1Description: Datasheet; ComponentLink1URL: https://yageogroup.com/content/datasheet/asset/file/PYU-RT_1-TO-0-01_ROHS_L; LCSC Part #: C110775; Supplier 1: LCSC; Supplier Part Number 1: C110775; JLCPCB Parts Type: Extended; JLCPCB PCBA Type: Economic and Standard
footprint RESC2012X60N (Chip Resistor, 2-Leads, Body 2.00x1.25mm, IPC Medium Density)
pins: 1, 2

## YXC Crystal Oscillators X322512MSB4SI
designator Y?, comment X322512MSB4SI
CRYSTAL 12MHz 20pF SMD; Manufacturer: YXC Crystal Oscillators; Manufacturer Part Number: X322512MSB4SI; ComponentLink1Description: Datasheet; ComponentLink1URL: https://www.lcsc.com/datasheet/C9002.pdf?spm=wm.sxq.inf.ggs&lcsc_vid=ElZYUwVRFVZfAgVWQlFcVVYFFVJdUFRWFQRWVVVRQgMxVlNeRVRWVlBXQlBeVTsOAxUeFF5JWBYZEEoKFBINSQcJGk4%3D; LCSC Part Number: C9002; ComponentLink2Description: 3D Model Source; ComponentLink2URL: *; Supplier 1: LCSC; Supplier Part Number 1: C9002; JLCPCB Parts Type: Basic; JLCPCB PCBA Type: Economic and Standard
footprint X322512MSB4SI
pins: 1, 2 GND, 3, 4 GND